# EAGLE library part RV-3029 (library domestichacks)
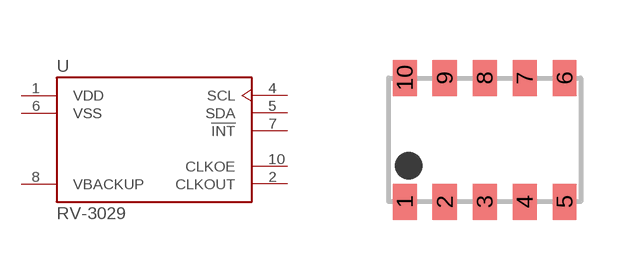
[diagram p2: symbol with the pads of RV-3029-C2; footprint RV-3029-C2]

Designator prefix -

## RV-3029  [RV-3029-C2]
1  VDD  in
2  CLKOUT  out
4  SCL  in
5  SDA
6  VSS  in
7  !INT  out
8  VBACKUP  in
10  CLKOE  in

## Footprint RV-3029-C2 (pad centres in mm)
smd 0.6 x 0.9: 1 -2,-1.1; 2 -1,-1.1; 3 0,-1.1; 4 1,-1.1; 5 2,-1.1; 6 2,2; 7 1,2; 8 0,2; 9 -1,2; 10 -2,2